# Altium schematic symbol library test.SchLib: 309 symbols (part 8 of 9)
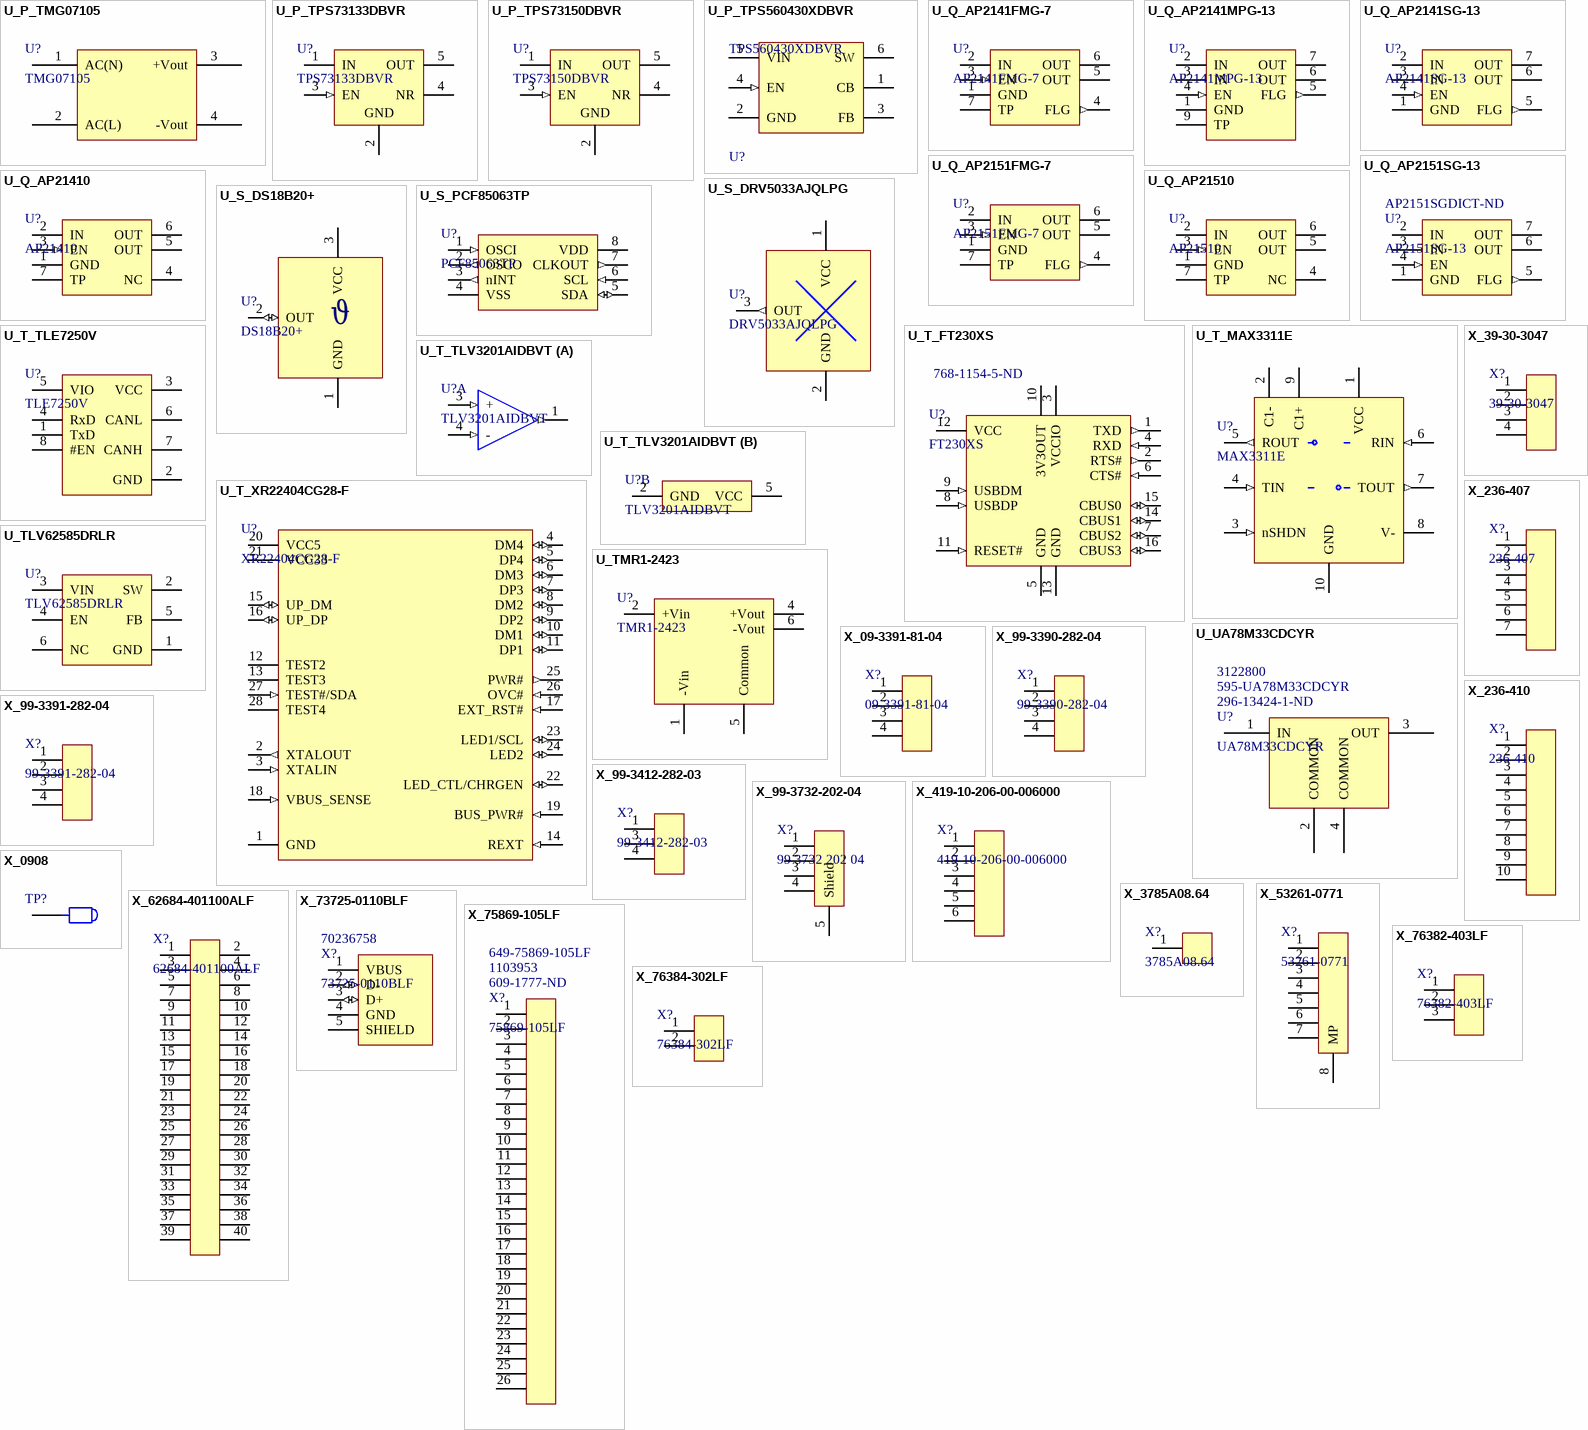
[diagram p15: symbols U_P_TMG07105 to X_76384-302LF]

## X_75869-105LF
designator X?, comment 75869-105LF  Supplier Part Number 1: 609-1777-ND  Supplier Part Number 2: 1103953  Supplier Part Number 3: 649-75869-105LF
Conn;  Rect;  Header;  Shrouded;  26 Pos;  2-Row;  2.54 mm;  Vert;  Gold (30);  Quickie; Manufacturer: Amphenol FCI; Number of Contacts: 26; Connector Type: Male Pin; Gender: Male; Current Rating: 1A; Mating Cycles: 250; Voltage Rating: 500V; Insulation Resistance: 100GR; Pitch: 2.54mm; Hole Diameter: 1mm; Contact Post Length: 3.05mm; Row Spacing: 0.1inch; Manufacturer Part Number: 75869-105LF; RoHS: Yes; Category: Headers and Wire Housings; Stock 1: 2271; Pricing 1: 1=1.89000, 10=1.71400, 100=1.46900, 500=1.22412, 1000=1.04925, 5000=0.93034, 10000=0.90935 (USD); Mount: Through Hole; Contact Plating: Gold,GXT; Housing Material: Thermoplastic; Housing Color: Blue; Contact Material: Bronze; Color: Blue; Min Operating Temperature: -65°C; Max Operating Temperature: 125°C; Number of Rows: 2; Termination: Solder; Orientation: Straight; Package Quantity: 14; Packaging: Rail/Tube; Number of Poles: 26; Number of Positions: 26; Max Voltage Rating (AC): 500V; Length: 40.23mm; Width: 9.55mm; Lead Pitch: 2.54mm; Contact Mating Length: 0.236inch; Depth: 9.55mm; Radiation Hardening: No; Flammability Rating: UL94 V-0; Lead Free: Lead Free; REACH SVHC: No SVHC; ComponentLink1URL: https://datasheet.ciiva.com/5159/75869-67738-5159120.pdf?src-supplier=Mouser; ComponentLink1Description: https://datasheet.ciiva.com/5159/75869-67738-5159120.pdf?src-supplier=Mouser; ComponentLink2URL: https://datasheet.ciiva.com/25618/0900766b80d79252-25618009.pdf?src-supplier=RSComponents; ComponentLink2Description: https://datasheet.ciiva.com/25618/0900766b80d79252-25618009.pdf?src-supplier=RSComponents; ComponentLink3URL: https://datasheet.ciiva.com/9473/75869-9473255.pdf?src-supplier=Avnet; ComponentLink3Description: https://datasheet.ciiva.com/9473/75869-9473255.pdf?src-supplier=Avnet; ComponentLink4URL: https://datasheet.ciiva.com/26929/getdatasheetpartid-65750-26929783.pdf?src-supplier=Verical; ComponentLink4Description: https://datasheet.ciiva.com/26929/getdatasheetpartid-65750-26929783.pdf?src-supplier=Verical; ComponentLink5URL: https://datasheet.ciiva.com/8046/8378-8046505.pdf?src-supplier=Element14; ComponentLink5Description: https://datasheet.ciiva.com/8046/8378-8046505.pdf?src-supplier=Element14; ComponentLink6URL: https://datasheet.ciiva.com/713/75869-713580.pdf?src-supplier=Digi-Key; ComponentLink6Description: https://datasheet.ciiva.com/713/75869-713580.pdf?src-supplier=Digi-Key; ComponentLink7URL: https://datasheet.ciiva.com/17093/70252541-17093612.pdf?src-supplier=Allied+Electronics; ComponentLink7Description: https://datasheet.ciiva.com/17093/70252541-17093612.pdf?src-supplier=Allied+Electronics; Supplier 1: Digi-Key; Supplier 2: Farnell; Supplier 3: Mouser
footprint HEADER26POL
pins: 1, 2, 3, 4, 5, 6, 7, 8, 9, 10, 11, 12, 13, 14, 15, 16, 17, 18, 19, 20, 21, 22, 23, 24, 25, 26

## X_76382-403LF
designator X?, comment 76382-403LF
3 Positions Header, Shrouded Connector 0.100" (2.54mm) Through Hole, Right Angle Tin; Manufacturer: Amphenol FCI; Supplier 1: Digi-Key; Supplier Part Number 1: 609-1292-ND; Manufacturer Part Number: 76382-403LF; ComponentLink1URL: https://datasheet.ciiva.com/13577/76382-105929-13577951.pdf; ComponentLink1Description: https://datasheet.ciiva.com/13577/76382-105929-13577951.pdf; ComponentLink2URL: https://datasheet.ciiva.com/713/76382-713319.pdf; ComponentLink2Description: https://datasheet.ciiva.com/713/76382-713319.pdf
footprint 76382-403LF
pins: 1, 2, 3

## X_76384-302LF
designator X?, comment 76384-302LF
CONN HEADER VERT 2POS 2.54MM; Manufacturer: Amphenol FCI; Connector Type: Male Pin; Number of Positions: 2; Max Voltage Rating (AC): 1kV; Gender: Male; Insulation Resistance: 100GR; Current Rating: 3A; Contact Post Length: 3.4mm; Supplier 1: Digi-Key; Manufacturer Part Number: 76384-302LF; RoHS: Yes; Category: Headers and Wire Housings; Stock 1: 2364; Pricing 1: 1=0.54000, 10=0.51000, 100=0.39070, 500=0.33976, 1000=0.28031, 5000=0.24633, 10000=0.22934 (USD); Mount: Through Hole; Color: Black; Housing Material: Thermoplastic; Contact Material: Bronze,Copper Alloy,Copper,Nickel,Gold; Housing Color: Black; Contact Plating: Gold,GXT; Min Operating Temperature: -40°C; Max Operating Temperature: 125°C; Package Quantity: 500; Packaging: Bulk; Termination: Solder; Number of Contacts: 2; Number of Rows: 1; Orientation: Straight; Voltage Rating: 1kV; Fastening Type: Friction; Length: 4.08mm; Width: 4.7mm; Pitch: 2.54mm; Depth: 5mm; Contact Mating Length: 0.197inch; Radiation Hardening: No; Lead Free: Lead Free; REACH SVHC: No SVHC; ComponentLink1URL: https://datasheet.ciiva.com/711/76384-711138.pdf?src-supplier=Digi-Key; ComponentLink1Description: https://datasheet.ciiva.com/711/76384-711138.pdf?src-supplier=Digi-Key; ComponentLink2URL: https://datasheet.ciiva.com/14640/70236773-14640887.pdf?src-supplier=Allied+Electronics; ComponentLink2Description: https://datasheet.ciiva.com/14640/70236773-14640887.pdf?src-supplier=Allied+Electronics; ComponentLink3URL: https://datasheet.ciiva.com/14155/gd116700-116785-14155545.pdf?src-supplier=Distrelec; ComponentLink3Description: https://datasheet.ciiva.com/14155/gd116700-116785-14155545.pdf?src-supplier=Distrelec; ComponentLink4URL: https://datasheet.ciiva.com/3118/76384-3118555.pdf?src-supplier=Avnet; ComponentLink4Description: https://datasheet.ciiva.com/3118/76384-3118555.pdf?src-supplier=Avnet; ComponentLink5URL: https://datasheet.ciiva.com/16658/76384-16658443.pdf?src-supplier=Avnet+Europe; ComponentLink5Description: https://datasheet.ciiva.com/16658/76384-16658443.pdf?src-supplier=Avnet+Europe; ComponentLink6URL: https://datasheet.ciiva.com/8046/76384-8046511.pdf?src-supplier=Element14; ComponentLink6Description: https://datasheet.ciiva.com/8046/76384-8046511.pdf?src-supplier=Element14; Supplier 2: Mouser; Stock 2: 1102; Pricing 2: 1=0.54000, 10=0.46100, 50=0.46100, 100=0.38600, 1000=0.27700, 10000=0.22500 (USD); Supplier 3: Farnell; Stock 3: 2055; Pricing 3: 10=0.33700, 100=0.27200, 500=0.24400, 1000=0.20200, 2500=0.17700, 5000=0.17300 (GBP); Supplier Part Number 1: 609-1304-ND; Supplier Part Number 2: 649-76384-302LF; Supplier Part Number 3: 2135958
footprint Pin Header 1x2 TH Pitch 2.54mm DUBOX V (PinHeader 1x2 TH Pitch 2.54mm)
pins: 1, 2

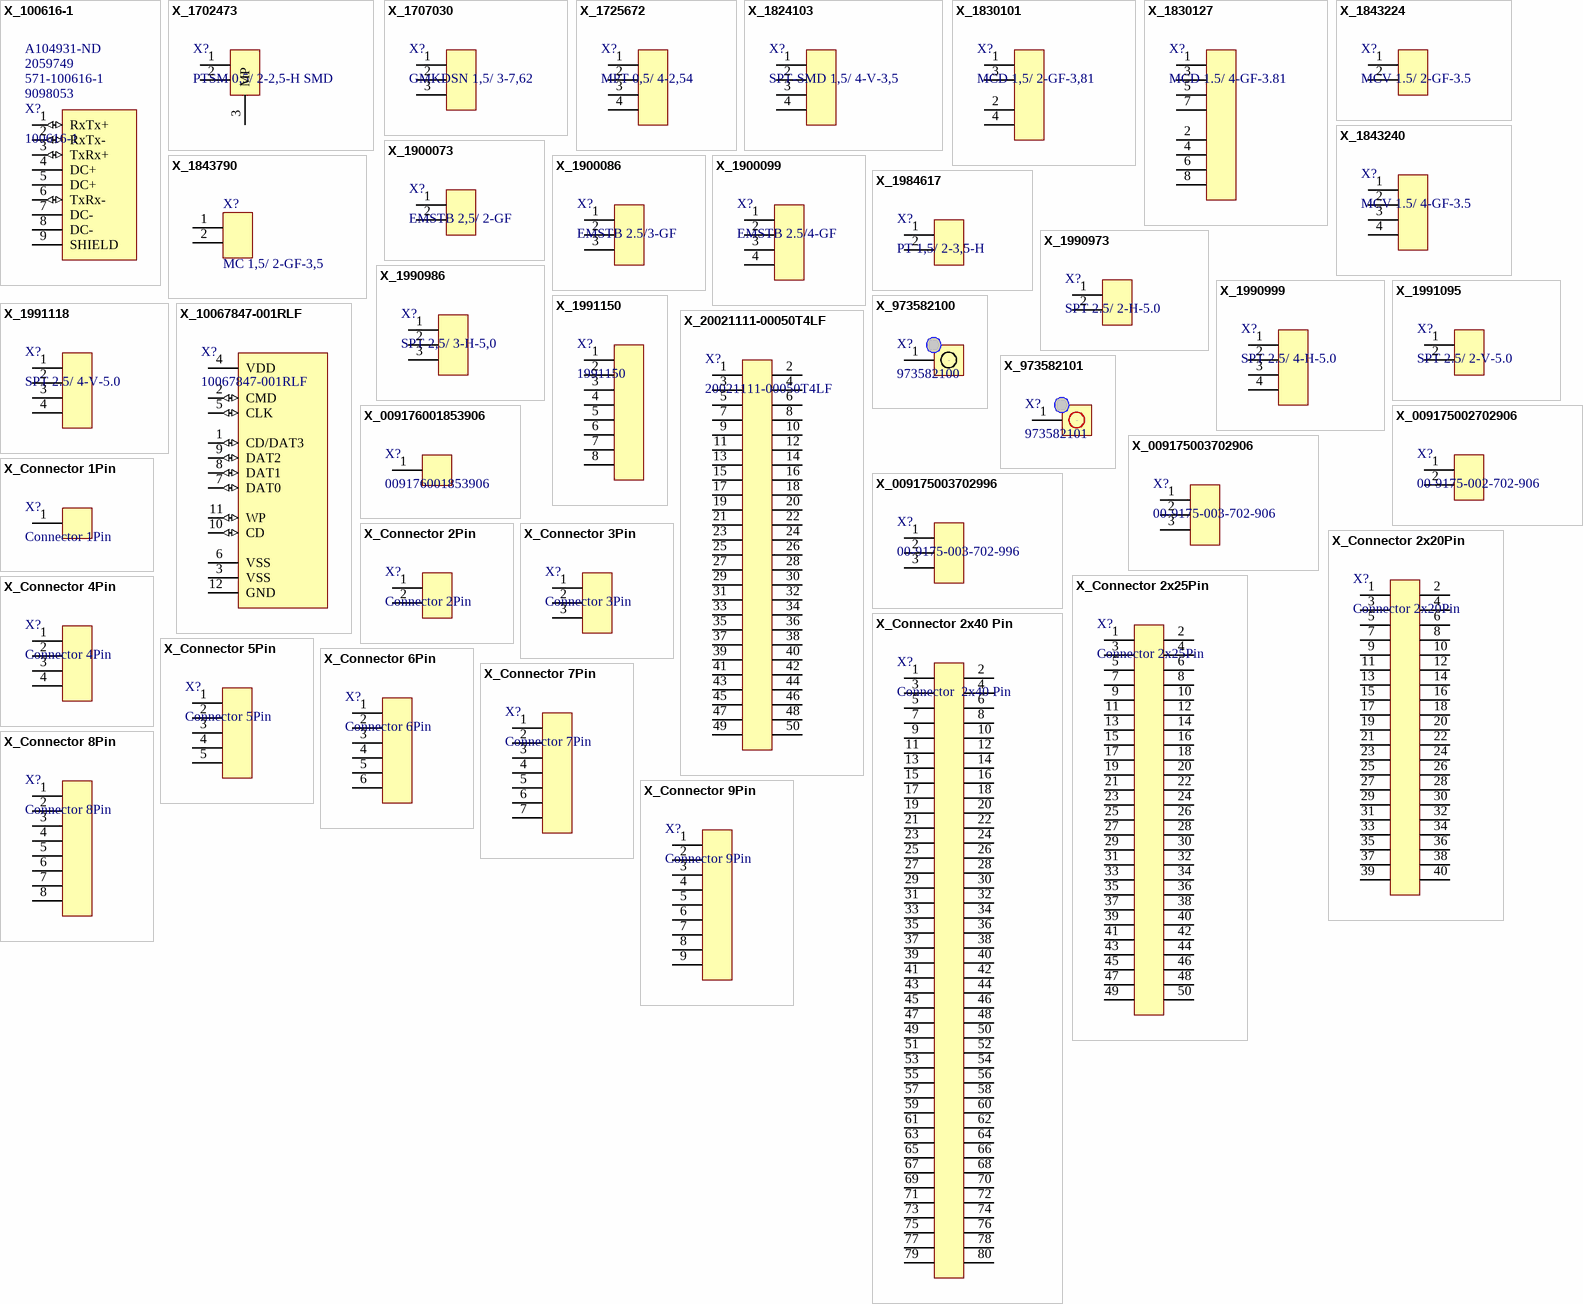
[diagram p7: symbols X_100616-1 to X_Connector 9Pin]

## X_100616-1
designator X?, comment 100616-1  Supplier Part Number 4: 9098053  Supplier Part Number 2: 571-100616-1  Supplier Part Number 3: 2059749  Supplier Part Number 1: A104931-ND
TE CONNECTIVITY / AMP 100616-1 JACK, RJ45, THT; Manufacturer: TE Connectivity; Manufacturer Part Number: 100616-1; ComponentLink1URL: https://datasheet.ciiva.com/23759/1509416-23759356.pdf; ComponentLink1Description: https://datasheet.ciiva.com/23759/1509416-23759356.pdf; ComponentLink2URL: https://datasheet.ciiva.com/16323/eng-cs-82066-mod-jacks-and-mrj21-prod-single-1107-16323398.pdf; ComponentLink2Description: https://datasheet.ciiva.com/16323/eng-cs-82066-mod-jacks-and-mrj21-prod-single-1107-16323398.pdf; ComponentLink3URL: https://datasheet.ciiva.com/16548/eng-cs-82066-mod-jacks-and-mrj21-prod-single-1107-16548141.pdf; ComponentLink3Description: https://datasheet.ciiva.com/16548/eng-cs-82066-mod-jacks-and-mrj21-prod-single-1107-16548141.pdf; ComponentLink4URL: https://datasheet.ciiva.com/6931/eng-cd-100616-p-6931516.pdf; ComponentLink4Description: https://datasheet.ciiva.com/6931/eng-cd-100616-p-6931516.pdf; ComponentLink5URL: https://datasheet.ciiva.com/1107/492544-1107159.pdf; ComponentLink5Description: https://datasheet.ciiva.com/1107/492544-1107159.pdf; ComponentLink6URL: https://datasheet.ciiva.com/3139/eng-cs-82066-mod-jacks-and-mrj21-prod-single-1107-3139307.pdf; ComponentLink6Description: https://datasheet.ciiva.com/3139/eng-cs-82066-mod-jacks-and-mrj21-prod-single-1107-3139307.pdf; Supplier 4: RSComponents; Supplier 2: Mouser; Supplier 3: Farnell; Supplier 1: Digi-Key
footprint 100616-1
pins: 1 RxTx+ (io), 2 RxTx- (io), 3 TxRx+ (io), 4 DC+ (power), 5 DC+ (power), 6 TxRx- (io), 7 DC- (power), 8 DC- (power), 9 SHIELD (power)

## X_1702473
designator X?, comment PTSM 0,5/ 2-2,5-H SMD
PHOENIX CONTACT - PTSM 0,5/ 2-2,5-H-SMD - TERMINAL BLOCK, WIRE TO BRD, 2POS, 20AWG; Manufacturer Part Number: 1702473; Max Supply Voltage: 150V; Current Rating: 6A; Voltage Rating: 160V; Number of Positions: 2; Number of Levels: 1; Current: 5A; Gender: Female; Wire Gauge (Min): 24AWG; Pitch: 2.5mm; Supplier 1: Digi-Key; Manufacturer: Phoenix Contact; RoHS: Yes; Category: Terminal Blocks; Stock 1: 15325; Pricing 1: 1=0.73000, 10=0.67200, 50=0.64400, 100=0.61600, 250=0.59920 (USD); Mount: Surface Mount; Number of Pins: 2; Material: Polymer; Housing Color: Black; Color: Black; Housing Material: Polymer; Contact Material: Tin; Contact Plating: Tin; Packaging: Tape and Reel; Package Quantity: 770; Orientation: Right Angle; Max Current Rating: 6A; Number of Rows: 1; Termination: Solder; Number of Positions Per Level: 2; Voltage: 150V; Number of Contacts: 2; Number of Circuits: 2; Length: 5.5mm; Width: 9mm; Height: 9.4mm; Wire Gauge (Max): 20AWG; Depth: 9.4mm; Wire/Cable Gauge: 24AWG; Radiation Hardening: No; Lead Free: Lead Free; REACH SVHC: Unknown; Flammability Rating: UL94 V-0; ComponentLink1URL: https://datasheet.ciiva.com/16045/1702473-16045904.pdf?src-supplier=Onlinecomponents.com; ComponentLink1Description: https://datasheet.ciiva.com/16045/1702473-16045904.pdf?src-supplier=Onlinecomponents.com; ComponentLink2URL: https://datasheet.ciiva.com/11758/0900766b80ecbf39-11758680.pdf?src-supplier=RSComponents; ComponentLink2Description: https://datasheet.ciiva.com/11758/0900766b80ecbf39-11758680.pdf?src-supplier=RSComponents; ComponentLink3URL: https://datasheet.ciiva.com/26920/getdatasheetpartid-335746-26920490.pdf?src-supplier=Verical; ComponentLink3Description: https://datasheet.ciiva.com/26920/getdatasheetpartid-335746-26920490.pdf?src-supplier=Verical; ComponentLink4URL: https://datasheet.ciiva.com/823/1702473-823756.pdf?src-supplier=Digi-Key; ComponentLink4Description: https://datasheet.ciiva.com/823/1702473-823756.pdf?src-supplier=Digi-Key; ComponentLink5URL: https://datasheet.ciiva.com/823/1702473-823757.pdf?src-supplier=Digi-Key; ComponentLink5Description: https://datasheet.ciiva.com/823/1702473-823757.pdf?src-supplier=Digi-Key; ComponentLink6URL: https://datasheet.ciiva.com/14643/70170429-14643773.pdf?src-supplier=Allied+Electronics; ComponentLink6Description: https://datasheet.ciiva.com/14643/70170429-14643773.pdf?src-supplier=Allied+Electronics; ComponentLink7URL: https://datasheet.ciiva.com/823/1702473-823758.pdf?src-supplier=Digi-Key; ComponentLink7Description: https://datasheet.ciiva.com/823/1702473-823758.pdf?src-supplier=Digi-Key; ComponentLink8URL: https://datasheet.ciiva.com/29217/569106-da-01-en-printklemme-1702473-770-st-29217643.pdf?src-supplier=Conrad; ComponentLink8Description: https://datasheet.ciiva.com/29217/569106-da-01-en-printklemme-1702473-770-st-29217643.pdf?src-supplier=Conrad; Supplier Part Number 1: 277-2337-1-ND
footprint 1702473 (PTSM 0,5/ 2-2,5-H SMD R24)
pins: 1, 2, 3 MP

## X_1707030
designator X?, comment GMKDSN 1,5/ 3-7,62
Conn PC Terminal Block F 3 POS 7.62mm Solder ST Thru-Hole 16A; Manufacturer: Phoenix Contact; Manufacturer Part Number: 1707030; Voltage Rating: 400V; Number of Positions: 3; Number of Levels: 1; Current: 10A; Voltage: 300V; Connector Type: Screw; Wire Gauge (Max): 26AWG; Pitch: 0.3inch; Supplier 1: Digi-Key; Supplier Part Number 1: 277-13735-ND; Stock 1: 135; Pricing 1: 1=2.52000, 10=2.44900, 50=2.28900, 100=2.10590, 250=1.94564, 500=1.85410, 1000=1.73965 (USD); RoHS: Yes; Mount: Through Hole; Number of Pins: 3; Weight: 1.410958oz; Color: Green; Housing Color: Green; Housing Material: Polyamide; Contact Material: Tin; Current Rating: 16A; Package Quantity: 50; Packaging: Bulk; Max Current Rating: 16A; Number of Rows: 1; Max Supply Voltage: 400V; Termination: Solder; Number of Positions Per Level: 3; Orientation: Straight; Length: 22.86mm; Height: 13.5mm; Wire Gauge (Min): 26AWG; Width: 22.86mm; Depth: 8.1mm; Radiation Hardening: No; Flammability Rating: UL94 V-0; ComponentLink1URL: https://datasheet.ciiva.com/832/1707030-832245.pdf?src-supplier=Digi-Key; ComponentLink1Description: https://datasheet.ciiva.com/832/1707030-832245.pdf?src-supplier=Digi-Key; ComponentLink2URL: https://datasheet.ciiva.com/15170/getdatasheetpartid-258508-15170105.pdf?src-supplier=Verical; ComponentLink2Description: https://datasheet.ciiva.com/15170/getdatasheetpartid-258508-15170105.pdf?src-supplier=Verical; ComponentLink3URL: https://datasheet.ciiva.com/29226/773636-da-01-en-printklemme-1707030-50-st-29226026.pdf?src-supplier=Conrad; ComponentLink3Description: https://datasheet.ciiva.com/29226/773636-da-01-en-printklemme-1707030-50-st-29226026.pdf?src-supplier=Conrad
footprint P_GMKDSN 1,5/ 3-7,62_PHOENIX
pins: 1 (power), 2 (power), 3 (power)

## X_1725672
designator X?, comment MPT 0,5/ 4-2,54
TERM BLK 4P SIDE ENT 2.54MM PCB; Manufacturer: Phoenix Contact; Manufacturer Part Number: 1725672; Number of Levels: 1; Number of Positions Per Level: 4; Current: 6A; Voltage: 125V; Connector Type: Screw; Max Supply Voltage: 63V; Wire Gauge (Max): 26AWG; Wire Gauge (Min): 20AWG; Approvals: UL; Supplier 1: Digi-Key; Supplier Part Number 1: 277-1275-ND; Stock 1: 5206; Pricing 1: 1 = 3.30000, 10 = 3.16400, 50 = 3.02620, 100 = 2.94360, 250 = 2.75100, 500 = 2.53092, 1000 = 2.33834, 2500 = 2.22832 (USD); RoHS: Yes; Mount: Through Hole; Number of Pins: 4; Weight: 0.044798oz; Color: Green; Housing Material: Polyamide; Housing Color: Green; Contact Material: Tin; Material: Nylon; Insulation Material: Nylon; Packaging: Bulk; Termination: Solder; Current Rating: 6A; Number of Rows: 1; Number of Positions: 4; Number of Contacts: 4; Orientation: Straight; Max Current Rating: 6A; Number of Poles: 4; Voltage Rating: 125V; Package Quantity: 50; Number of Circuits: 4; Length: 6.2mm; Height: 10.62mm; Pitch: 2.54mm; Wire/Cable Gauge: 26AWG; Depth: 6.2mm; Width: 14mm; Radiation Hardening: No; Lead Free: Lead Free; REACH SVHC: No SVHC; Flammability Rating: UL94 V-0; ComponentLink1URL: https://datasheet.ciiva.com/1120/5117-1120512.pdf?src-supplier=Farnell; ComponentLink1Description: https://datasheet.ciiva.com/1120/5117-1120512.pdf?src-supplier=Farnell; ComponentLink2URL: https://datasheet.ciiva.com/823/1725672-823812.pdf?src-supplier=Digi-Key; ComponentLink2Description: https://datasheet.ciiva.com/823/1725672-823812.pdf?src-supplier=Digi-Key; ComponentLink3URL: https://datasheet.ciiva.com/11757/0900766b80363fc3-11757428.pdf?src-supplier=RSComponents; ComponentLink3Description: https://datasheet.ciiva.com/11757/0900766b80363fc3-11757428.pdf?src-supplier=RSComponents; ComponentLink4URL: https://datasheet.ciiva.com/7053/1697274-7053094.pdf?src-supplier=Newark; ComponentLink4Description: https://datasheet.ciiva.com/7053/1697274-7053094.pdf?src-supplier=Newark; ComponentLink5URL: https://datasheet.ciiva.com/15169/getdatasheetpartid-177917-15169671.pdf?src-supplier=Verical; ComponentLink5Description: https://datasheet.ciiva.com/15169/getdatasheetpartid-177917-15169671.pdf?src-supplier=Verical; ComponentLink6URL: https://datasheet.ciiva.com/16071/1725672-16071850.pdf?src-supplier=Onlinecomponents.com; ComponentLink6Description: https://datasheet.ciiva.com/16071/1725672-16071850.pdf?src-supplier=Onlinecomponents.com; ComponentLink7URL: https://datasheet.ciiva.com/1118/5117-1118545.pdf?src-supplier=Element14; ComponentLink7Description: https://datasheet.ciiva.com/1118/5117-1118545.pdf?src-supplier=Element14
footprint 1725672 (TERM BLK 4P SIDE ENT 2.54MM PCB)
pins: 1, 2, 3, 4

## X_1824103
designator X?, comment SPT-SMD 1,5/ 4-V-3,5
TERM BLK 4P TOP ENTRY 3.5MM SMD; Manufacturer: Phoenix Contact; Manufacturer Part Number: 1824103; Number of Levels: 1; Number of Positions Per Level: 4; Current: 10A; Voltage: 300V; Pitch: 0.138inch; Wire Gauge (Max): 24AWG; Wire Gauge (Min): 16AWG; Supplier 1: Digi-Key; RoHS: Yes; Category: Terminal Blocks; Stock 1: 461; Pricing 1: 1=4.25000, 10=4.07100, 50=3.89400, 100=3.78780 (USD); Mount: Surface Mount; Number of Pins: 4; Color: Black; Housing Material: Polymer; Contact Plating: Tin; Housing Color: Black; Packaging: Tape and Reel; Termination: Screwless; ComponentLink1URL: https://media.digikey.com/pdf/Data%20Sheets/Phoenix%20Contact%20PDFs/1824103.pdf?src-supplier=Digi-Key; ComponentLink1Description: https://media.digikey.com/pdf/Data%20Sheets/Phoenix%20Contact%20PDFs/1824103.pdf?src-supplier=Digi-Key; Supplier Part Number 1: 277-11528-1-ND
footprint 1824103 (SPT-SMD 1,5/ 4-V-3,5 R44)
pins: 1, 2, 3, 4

## X_1830101
designator X?, comment MCD 1,5/ 2-GF-3,81
Manufacturer: Phoenix Contact; Manufacturer Part Number: 1830101; Supplier 1: Digi-Key; Supplier Part Number 1: 277-14134-ND; ComponentLink1URL: http://components.arrow.com/part/dataview/44194232S75533N1555; ComponentLink1Description: http://components.arrow.com/part/dataview/44194232S75533N1555; ComponentLink2URL: //media.digikey.com/pdf/Data%20Sheets/Phoenix%20Contact%20PDFs/1830101.pdf; ComponentLink2Description: //media.digikey.com/pdf/Data%20Sheets/Phoenix%20Contact%20PDFs/1830101.pdf; ComponentLink3URL: http://www.mouser.com/ds/2/324/ItemDetail_1830101-922520.pdf; ComponentLink3Description: http://www.mouser.com/ds/2/324/ItemDetail_1830101-922520.pdf
footprint MCD 1,5/ 2-GF-3,81
pins: 1, 2, 3, 4

## X_1830127
designator X?, comment MCD 1.5/ 4-GF-3.81
Manufacturer: Phoenix Contact; Manufacturer Part Number: 1830127; Supplier 1: Digi-Key; Supplier Part Number 1: 1830127-ND; ComponentLink1URL: http://www.mouser.com/ds/2/324/ItemDetail_1830127-917667.pdf; ComponentLink1Description: http://www.mouser.com/ds/2/324/ItemDetail_1830127-917667.pdf; ComponentLink2URL: http://components.arrow.com/part/dataview/44194238S9084575N1555; ComponentLink2Description: http://components.arrow.com/part/dataview/44194238S9084575N1555
footprint MCD 1,5/ 4-GF-3,81
pins: 1, 2, 3, 4, 5, 6, 7, 8

## X_1843224
designator X?, comment MCV 1.5/ 2-GF-3.5
Pluggable Terminal Blocks MCV 1.5/ 2-GF-3.5; Manufacturer: Phoenix Contact; Manufacturer Part Number: 1843224; Supplier 1: Digi-Key; Supplier Part Number 1: 277-6083-ND
footprint MCV 1,5/ 2-GF-3,5
pins: 1, 2

## X_1843240
designator X?, comment MCV 1.5/ 4-GF-3.5
Manufacturer: Phoenix Contact; Manufacturer Part Number: 1843240; ComponentLink1URL: https://datasheet.ciiva.com/16097/1843240-16097113.pdf; ComponentLink1Description: https://datasheet.ciiva.com/16097/1843240-16097113.pdf; ComponentLink2URL: https://datasheet.ciiva.com/6754/1843240-6754509.pdf; ComponentLink2Description: https://datasheet.ciiva.com/6754/1843240-6754509.pdf; ComponentLink3URL: https://datasheet.ciiva.com/26840/getdatasheetpartid-514980-26840529.pdf; ComponentLink3Description: https://datasheet.ciiva.com/26840/getdatasheetpartid-514980-26840529.pdf; ComponentLink4URL: https://datasheet.ciiva.com/29212/788433-da-01-en-grundgehaeuse-1843240-250-st-29212946.pdf; ComponentLink4Description: https://datasheet.ciiva.com/29212/788433-da-01-en-grundgehaeuse-1843240-250-st-29212946.pdf; Supplier 1: Digi-Key; Supplier 2: Mouser; Supplier 3: Farnell; Supplier Part Number 1: 277-6052-ND; Supplier Part Number 2: 651-1843240; Supplier Part Number 3: 2776353
footprint MCV 1,5/ 4-GF-3,5 (EMC 1,5/ 4-GF-3,5)
pins: 1, 2, 3, 4

## X_1843790
designator X?, comment MC 1,5/ 2-GF-3,5
MC 1,5/ 2-GF-3,5 / Pluggable Terminal Blocks 2 Pos 3.5mm pitch Through Hole Header; Manufacturer: Phoenix Contact; Manufacturer Part Number: 1843790; Number of Contacts: 2; Current Rating: 8A; Voltage Rating: 160V; Number of Levels: 1; Voltage: 300V; Connector Type: Plug; Supplier 1: Digi-Key; RoHS: Yes; Category: Terminal Blocks; Stock 1: 7315; Pricing 1: 1=2.76000, 10=2.64500, 50=2.53000, 100=2.46100, 250=2.30000, 500=2.11600, 1000=1.95499, 2500=1.86300, 5000=1.74800 (USD); Mount: Through Hole; Contact Plating: Tin; Contact Material: Tin; Color: Green; Housing Material: Polybutylene; Housing Color: Green; Weight: 4oz; Termination: Solder; Packaging: Bulk; Number of Rows: 1; Package Quantity: 50; Current: 8A; Orientation: Right Angle; Number of Positions Per Level: 2; Number of Positions: 2; Max Current Rating: 8A; Length: 17.3mm; Width: 17.3mm; Height: 10.65mm; Pitch: 3.5mm; Depth: 9.2mm; Lead Free: Lead Free; Flammability Rating: UL94 V-0; ComponentLink1URL: https://datasheet.ciiva.com/16097/1843790-16097145.pdf?src-supplier=Onlinecomponents.com; ComponentLink1Description: https://datasheet.ciiva.com/16097/1843790-16097145.pdf?src-supplier=Onlinecomponents.com; ComponentLink2URL: https://datasheet.ciiva.com/26339/788934-da-01-en-grundgehaeuse-1843790-250-st-26339482.pdf?src-supplier=Conrad; ComponentLink2Description: https://datasheet.ciiva.com/26339/788934-da-01-en-grundgehaeuse-1843790-250-st-26339482.pdf?src-supplier=Conrad; Supplier Part Number 1: 277-5882-ND
footprint MC 1,5/ 2-GF-3,5
pins: 1, 2

## X_1900073
designator X?, comment EMSTB 2,5/ 2-GF
Pluggable Terminal Blocks EMSTB 2.5/2-GF; Manufacturer: Phoenix Contact; Manufacturer Part Number: 1900073; Supplier 1: Digi-Key; Supplier Part Number 1: 277-14326-ND; ComponentLink1URL: https://datasheet.ciiva.com/16097/1900073-16097371.pdf; ComponentLink1Description: https://datasheet.ciiva.com/16097/1900073-16097371.pdf
footprint EMSTB 2,5/ 2-GF
pins: 1, 2

## X_1900086
designator X?, comment EMSTB 2.5/3-GF
Pluggable Terminal Blocks EMSTB 2.5/3-GF; Manufacturer: Phoenix Contact; Manufacturer Part Number: 1900086; Supplier 1: Digi-Key; Supplier Part Number 1: 1900086-ND; ComponentLink1URL: http://components.arrow.com/part/dataview/44220487S75226N1555; ComponentLink1Description: http://components.arrow.com/part/dataview/44220487S75226N1555; ComponentLink2URL: http://www.mouser.com/ds/2/324/ItemDetail_1900086-930201.pdf; ComponentLink2Description: http://www.mouser.com/ds/2/324/ItemDetail_1900086-930201.pdf; ComponentLink3URL: //media.digikey.com/pdf/Data%20Sheets/Phoenix%20Contact%20PDFs/1900086.pdf; ComponentLink3Description: //media.digikey.com/pdf/Data%20Sheets/Phoenix%20Contact%20PDFs/1900086.pdf
footprint EMSTB 2,5/ 3-GF
pins: 1, 2, 3

## X_1900099
designator X?, comment EMSTB 2.5/4-GF
Pluggable Terminal Blocks EMSTB 2.5/4-GF; Manufacturer: Phoenix Contact; Manufacturer Part Number: 1900099; Supplier 1: Digi-Key; Supplier Part Number 1: 1900099-ND; ComponentLink1URL: https://datasheet.ciiva.com/816/1900099-816890.pdf; ComponentLink1Description: https://datasheet.ciiva.com/816/1900099-816890.pdf
footprint EMSTB 2.5/4-GF
pins: 1, 2, 3, 4

## X_1984617
designator X?, comment PT 1,5/ 2-3,5-H
Conn;  Term Blk;  PCB;  2;  3.5 mm;  Front;  26-16 AWG;  10 A;  300 V;  1.2 mm PA; Manufacturer: Phoenix Contact; Manufacturer Part Number: 1984617; Current Rating: 17.5A; Voltage Rating: 160V; Number of Positions: 2; Max Current Rating: 10A; Number of Levels: 1; Voltage: 300V; Wire Gauge (Max): 26AWG; Wire Gauge (Min): 16AWG; Pitch: 3.5mm; Stripping Length: 5mm; Approvals: UL,EAC; Supplier 1: Digi-Key; RoHS: Yes; Category: Terminal Blocks; Stock 1: 3834; Pricing 1: 1=0.48000, 10=0.46000, 50=0.44000, 100=0.42800, 250=0.40000, 500=0.36800, 1000=0.34000 (USD); Mount: Through Hole; Number of Pins: 2; Contact Material: Tin; Color: Green; Weight: 0.032487oz; Material: Nylon; Housing Color: Green; Housing Material: Polyamide; Packaging: Bulk; Termination: Solder; Number of Contacts: 2; Series: COMBICON PT; Number of Rows: 1; Max Supply Voltage: 160V; Package Quantity: 250; Number of Poles: 2; Number of Positions Per Level: 2; Current: 10A; Number of Circuits: 2; Orientation: Straight; Number of Ways: 2; Length: 7mm; Width: 13.7mm; Height: 9mm; Depth: 7.6mm; Wire/Cable Gauge: 16AWG; Radiation Hardening: No; Lead Free: Lead Free; RoHS Compliant: Yes; Flammability Rating: UL94 V-0; ComponentLink1URL: https://datasheet.ciiva.com/3969/1984617-3969923.pdf?src-supplier=Arrow+Electronics; ComponentLink1Description: https://datasheet.ciiva.com/3969/1984617-3969923.pdf?src-supplier=Arrow+Electronics; ComponentLink2URL: https://datasheet.ciiva.com/11758/0900766b811d7588-11758486.pdf?src-supplier=RSComponents; ComponentLink2Description: https://datasheet.ciiva.com/11758/0900766b811d7588-11758486.pdf?src-supplier=RSComponents; ComponentLink3URL: https://datasheet.ciiva.com/15169/getdatasheetpartid-212214-15169950.pdf?src-supplier=Verical; ComponentLink3Description: https://datasheet.ciiva.com/15169/getdatasheetpartid-212214-15169950.pdf?src-supplier=Verical; ComponentLink4URL: https://datasheet.ciiva.com/16070/1984617-16070639.pdf?src-supplier=Onlinecomponents.com; ComponentLink4Description: https://datasheet.ciiva.com/16070/1984617-16070639.pdf?src-supplier=Onlinecomponents.com; ComponentLink5URL: https://datasheet.ciiva.com/823/combiconcompactseries-823754.pdf?src-supplier=Digi-Key; ComponentLink5Description: https://datasheet.ciiva.com/823/combiconcompactseries-823754.pdf?src-supplier=Digi-Key; Supplier 2: Mouser; Stock 2: 38853; Pricing 2: 1=0.48000, 10=0.45900, 50=0.43900, 100=0.42700, 1000=0.33900, 10000=0.33900 (USD); Supplier 3: Farnell; Stock 3: 6427; Pricing 3: 10=1.03000, 100=0.30900, 250=0.29900, 500=0.28800, 1000=0.28200, 2500=0.27600 (GBP); Supplier Part Number 1: 277-1721-ND; Supplier Part Number 2: 651-1984617; Supplier Part Number 3: 2776442
footprint PT 1,5/ 2-3,5-H - 1984617
pins: 1, 2

## X_1990973
designator X?, comment SPT 2.5/ 2-H-5.0
Fixed Terminal Blocks SPT 2.5/ 2-H-5.0 5MM 2P HORZ SPR; Manufacturer: Phoenix Contact; Manufacturer Part Number: 1990973; Supplier 1: Digi-Key; Supplier Part Number 1: 277-7665-ND; ComponentLink1URL: https://datasheet.ciiva.com/24441/1990973-24441484.pdf; ComponentLink1Description: https://datasheet.ciiva.com/24441/1990973-24441484.pdf; ComponentLink2URL: https://datasheet.ciiva.com/11758/0900766b80ff57cd-11758662.pdf; ComponentLink2Description: https://datasheet.ciiva.com/11758/0900766b80ff57cd-11758662.pdf
footprint SPT 2,5/2-H-5,0
pins: 1, 2

## X_1990986
designator X?, comment SPT 2,5/ 3-H-5,0
SPT 2,5/ 3-H-5,0 Conn PC Terminal Block 3 POS 5mm Solder RA Thru-Hole 24A; Manufacturer: Phoenix Contact; Manufacturer Part Number: 1990986; Number of Poles: 3; Voltage Rating: 400V; Number of Levels: 1; Current: 20A; Voltage: 300V; Wire Gauge (Max): 24AWG; Approvals: UL,CB,EAC; Supplier 1: Digi-Key; RoHS: Yes; Category: Terminal Blocks; Stock 1: 189; Pricing 1: 1=1.79000, 10=1.71600, 50=1.66920, 100=1.56000, 250=1.43520, 500=1.32600, 1000=1.26360, 2500=1.18560 (USD); Mount: Through Hole; Housing Material: Nylon; Color: Green; Weight: 0.142648oz; Housing Color: Green; Max Current Rating: 24A; Termination: Screwless; Orientation: Right Angle; Number of Rows: 1; Current Rating: 24A; Package Quantity: 100; Packaging: Bulk; Number of Positions: 3; Number of Positions Per Level: 3; Number of Contacts: 3; Number of Circuits: 3; Series: COMBICON SPT; Length: 16.4mm; Width: 13.5mm; Wire Gauge (Min): 24AWG; Depth: 14.4mm; Pitch: 5mm; Lead Free: Lead Free; RoHS Compliant: Yes; ComponentLink1URL: https://datasheet.ciiva.com/24386/1990986-24386788.pdf?src-supplier=Onlinecomponents.com; ComponentLink1Description: https://datasheet.ciiva.com/24386/1990986-24386788.pdf?src-supplier=Onlinecomponents.com; ComponentLink2URL: https://datasheet.ciiva.com/18620/1990986-18620855.pdf?src-supplier=Digi-Key; ComponentLink2Description: https://datasheet.ciiva.com/18620/1990986-18620855.pdf?src-supplier=Digi-Key; ComponentLink3URL: https://datasheet.ciiva.com/29312/788669-da-01-de-printklemme-1990986-100-st-29312420.pdf?src-supplier=Conrad; ComponentLink3Description: https://datasheet.ciiva.com/29312/788669-da-01-de-printklemme-1990986-100-st-29312420.pdf?src-supplier=Conrad; ComponentLink4URL: https://datasheet.ciiva.com/14610/70055227-14610907.pdf?src-supplier=Allied+Electronics; ComponentLink4Description: https://datasheet.ciiva.com/14610/70055227-14610907.pdf?src-supplier=Allied+Electronics; Supplier 2: Mouser; Stock 2: 580; Pricing 2: 1=1.80000, 10=1.72000, 50=1.67000, 100=1.56000, 1000=1.27000, 10000=1.19000 (USD); Supplier 3: Farnell; Supplier Part Number 1: 277-9790-ND; Supplier Part Number 2: 651-1990986; Supplier Part Number 3: 2928709
footprint SPT 2,5/3-H-5,0
pins: 1, 2, 3

## X_1990999
designator X?, comment SPT 2.5/ 4-H-5.0
Fixed Terminal Blocks SPT 2.5/ 4-H-5.0 5MM 4P HORZ SPR; Manufacturer: Phoenix Contact; Manufacturer Part Number: 1990999; Supplier 1: Digi-Key; Supplier Part Number 1: 277-9154-ND; ComponentLink1URL: https://datasheet.ciiva.com/11758/0900766b80ff57cf-11758637.pdf; ComponentLink1Description: https://datasheet.ciiva.com/11758/0900766b80ff57cf-11758637.pdf
footprint SPT 2,5/4-H-5,0
pins: 1, 2, 3, 4

## X_1991095
designator X?, comment SPT 2.5/ 2-V-5.0
Fixed Terminal Blocks SPT 2.5/ 2-V-5.0 5MM 2P VERT SPR; Manufacturer: Phoenix Contact; Manufacturer Part Number: 1991095; Supplier 1: Digi-Key; Supplier Part Number 1: 277-6267-ND; ComponentLink1URL: https://datasheet.ciiva.com/16051/1991095-16051374.pdf; ComponentLink1Description: https://datasheet.ciiva.com/16051/1991095-16051374.pdf; ComponentLink2URL: https://datasheet.ciiva.com/6752/1991095-6752880.pdf; ComponentLink2Description: https://datasheet.ciiva.com/6752/1991095-6752880.pdf; ComponentLink3URL: https://datasheet.ciiva.com/29222/774864-da-01-en-printklemme-1991095-100-st-29222380.pdf; ComponentLink3Description: https://datasheet.ciiva.com/29222/774864-da-01-en-printklemme-1991095-100-st-29222380.pdf
footprint SPT 2,5/2-V-5,0
pins: 1, 2

## X_1991118
designator X?, comment SPT 2.5/ 4-V-5.0
Fixed Terminal Blocks SPT 2.5/ 4-V-5.0 5MM 4P VERT SPR; Manufacturer: Phoenix Contact; Manufacturer Part Number: 1991118; Supplier 1: Digi-Key; Supplier Part Number 1: 277-6407-ND; ComponentLink1URL: https://datasheet.ciiva.com/11758/0900766b80ffd31d-11758652.pdf; ComponentLink1Description: https://datasheet.ciiva.com/11758/0900766b80ffd31d-11758652.pdf; ComponentLink2URL: https://datasheet.ciiva.com/6752/1991118-6752792.pdf; ComponentLink2Description: https://datasheet.ciiva.com/6752/1991118-6752792.pdf; ComponentLink3URL: https://datasheet.ciiva.com/14609/70055231-14609885.pdf; ComponentLink3Description: https://datasheet.ciiva.com/14609/70055231-14609885.pdf
footprint SPT 2,5/4-V-5,0
pins: 1, 2, 3, 4

## X_1991150
designator X?, comment 1991150
SPT 2,5/ 8-V-5,0; Manufacturer: Phoenix Contact; Voltage Rating: 400V; Number of Positions: 8; Current Rating: 24A; Number of Levels: 1; Current: 20A; Voltage: 300V; Wire Gauge (Max): 24AWG; Wire Gauge (Min): 12AWG; Pitch: 5mm; Stripping Length: 10mm; Approvals: UL,CB,EAC; Supplier 1: Digi-Key; Manufacturer Part Number: 1991150; RoHS: Yes; Category: Terminal Blocks; Pricing 1: 1=4.65000, 10=4.52600, 50=4.23000, 100=3.89160, 250=3.59552, 500=3.42632, 1000=3.21480 (USD); Mount: Through Hole; Color: Green; Weight: 0.376726oz; Housing Color: Green; Housing Material: Nylon; Packaging: Bulk; Termination: Screwless; Package Quantity: 1; Number of Contacts: 8; Series: COMBICON SPT; Number of Rows: 1; Max Current Rating: 24A; Number of Positions Per Level: 8; Orientation: Straight; Number of Poles: 8; Number of Circuits: 8; Length: 41.4mm; Width: 14.4mm; Depth: 13.5mm; RoHS Compliant: Yes; Lead Free: Lead Free; ComponentLink1URL: https://datasheet.ciiva.com/11758/0900766b80ffd320-11758630.pdf?src-supplier=RSComponents; ComponentLink1Description: https://datasheet.ciiva.com/11758/0900766b80ffd320-11758630.pdf?src-supplier=RSComponents; ComponentLink2URL: https://datasheet.ciiva.com/832/1991150-832407.pdf?src-supplier=Digi-Key; ComponentLink2Description: https://datasheet.ciiva.com/832/1991150-832407.pdf?src-supplier=Digi-Key; ComponentLink3URL: https://datasheet.ciiva.com/16051/1991150-16051386.pdf?src-supplier=Onlinecomponents.com; ComponentLink3Description: https://datasheet.ciiva.com/16051/1991150-16051386.pdf?src-supplier=Onlinecomponents.com; ComponentLink4URL: https://datasheet.ciiva.com/29312/788935-da-01-de-printklemme-1991150-50-st-29312443.pdf?src-supplier=Conrad; ComponentLink4Description: https://datasheet.ciiva.com/29312/788935-da-01-de-printklemme-1991150-50-st-29312443.pdf?src-supplier=Conrad; Supplier 2: Mouser; Pricing 2: 1=4.66000, 10=4.53000, 50=4.23000, 100=3.90000, 1000=3.22000, 10000=3.05000 (USD); Supplier 3: Farnell; Pricing 3: 50=2.92000 (GBP); Supplier Part Number 1: 277-9156-ND; Supplier Part Number 2: 651-1991150; Supplier Part Number 3: 2928722
footprint SPT 2,5/ 8-V-5,0
pins: 1, 2, 3, 4, 5, 6, 7, 8

## X_10067847-001RLF
designator X?, comment 10067847-001RLF
CONN SD CARD PUSH-PUSH SMD; Manufacturer: Amphenol FCI; Supplier 1: Digi-Key; Supplier Part Number 1: 609-3956-1-ND; Manufacturer Part Number: 10067847-001RLF; ComponentLink1URL: https://datasheet.ciiva.com/4581/gs-12-497-4581078.pdf; ComponentLink1Description: https://datasheet.ciiva.com/4581/gs-12-497-4581078.pdf; ComponentLink2URL: https://datasheet.ciiva.com/1106/10067847-1106690.pdf; ComponentLink2Description: https://datasheet.ciiva.com/1106/10067847-1106690.pdf; ComponentLink3URL: https://datasheet.ciiva.com/16547/10067847-16547175.pdf; ComponentLink3Description: https://datasheet.ciiva.com/16547/10067847-16547175.pdf; ComponentLink4URL: https://datasheet.ciiva.com/16469/10067847-16469065.pdf; ComponentLink4Description: https://datasheet.ciiva.com/16469/10067847-16469065.pdf; ComponentLink5URL: https://datasheet.ciiva.com/14617/70248486-14617899.pdf; ComponentLink5Description: https://datasheet.ciiva.com/14617/70248486-14617899.pdf; ComponentLink6URL: https://datasheet.ciiva.com/1107/10067847-1107127.pdf; ComponentLink6Description: https://datasheet.ciiva.com/1107/10067847-1107127.pdf; ComponentLink7URL: https://datasheet.ciiva.com/683/10067847-683412.pdf; ComponentLink7Description: https://datasheet.ciiva.com/683/10067847-683412.pdf; ComponentLink8URL: https://datasheet.ciiva.com/683/10067847-683413.pdf; ComponentLink8Description: https://datasheet.ciiva.com/683/10067847-683413.pdf; ComponentLink9URL: https://datasheet.ciiva.com/683/10067847-683411.pdf; ComponentLink9Description: https://datasheet.ciiva.com/683/10067847-683411.pdf; Supplier 2: Mouser; RoHS: No; Stock 2: 2910; Pricing 2: 1=1.41000, 10=1.15000, 50=1.15000, 100=1.10000, 1000=0.79700, 10000=0.77400 (USD); Supplier 3: Farnell; Stock 3: 3745; Pricing 3: 1=2.24000, 10=2.04000, 100=1.84000, 250=1.64000, 500=1.44000, 1000=1.24000 (GBP); Supplier Part Number 2: 649-10067847-001RLF; Supplier Part Number 3: 2135990
footprint 10067847 (Footprint not found)
pins: 1 CD/DAT3 (io), 2 CMD (io), 3 VSS (power), 4 VDD (power), 5 CLK (io), 6 VSS (power), 7 DAT0 (io), 8 DAT1 (io), 9 DAT2 (io), 10 CD (io), 11 WP (io), 12 GND (power)

## X_20021111-00050T4LF
designator X?, comment 20021111-00050T4LF
50 Positions Header, Unshrouded Connector 0.050" (1.27mm) Through Hole Gold; Manufacturer: Amphenol FCI; Contact Resistance: 30mR; Current Rating: 50A; Voltage Rating: 125V; Number of Positions: 50; Gender: Male; Connector Type: Male Pin; Row Spacing: 0.05inch; Mating Post Length: 3.05mm; Supplier 1: Digi-Key; Supplier Part Number 1: 609-3725-ND; Manufacturer Part Number: 20021111-00050T4LF; Stock 1: 810; Pricing 1: 1=2.63, 10=2.527, 100=2.1058, 500=1.78994, 1000=1.52671, 5000=1.36877 (USD); Mount: Through Hole; Contact Plating: Gold; Contact Material: Nickel,Copper Alloy; Colour: Black; Housing Colour: Black; Housing Material: Plastic; Min Operating Temperature: -40°C; Max Operating Temperature: 85°C; Number of Rows: 2; Packaging: Rail/Tube; Package Quantity: 18; Termination: Solder; Max Voltage Rating (AC): 125V; Number of Contacts: 50; Orientation: Straight; Length: 31.75mm; Pitch: 1.27mm; Contact Mating Length: 0.12inch; Termination Post Length: 2.3mm; Depth: 3.4mm; ComponentLink1URL: https://datasheet.ciiva.com/409/20021111-409178.pdf; ComponentLink1Description: https://datasheet.ciiva.com/409/20021111-409178.pdf; ComponentLink2URL: https://datasheet.ciiva.com/10033/20021111-10033770.pdf; ComponentLink2Description: https://datasheet.ciiva.com/10033/20021111-10033770.pdf; ComponentLink3URL: https://datasheet.ciiva.com/13857/20021111-13857309.pdf; ComponentLink3Description: https://datasheet.ciiva.com/13857/20021111-13857309.pdf
footprint 20021111-00050T4LF (CONN HEADER 50POS UNSHD VERT T/H)
pins: 1, 2, 3, 4, 5, 6, 7, 8, 9, 10, 11, 12, 13, 14, 15, 16, 17, 18, 19, 20, 21, 22, 23, 24, 25, 26, 27, 28, 29, 30, 31, 32, 33, 34, 35, 36, 37, 38, 39, 40, 41, 42, 43, 44, 45, 46, 47, 48, 49, 50

## X_973582100
designator X?, comment 973582100
Hirschmann Test & Measurement, Black 4mm Socket, Tin Plated, 60V dc, 16A; Manufacturer: SKS Hirschmann; Gender: Female; Contact Resistance: 5mR; Hole Diameter: 1.2mm; Supplier 1: Distrelec; Supplier Part Number 1: 140-53-104; Manufacturer Part Number: 973582100; Stock 1: 1944; Pricing 1: 1=9.55000, 10=8.70000, 25=8.53000, 50=8.35000, 100=8.18000 (CHF); RoHS: Yes; Mount: PCB; Color: Black; Contact Material: Brass; Contact Plating: Tin; Insulation Material: PC; Min Operating Temperature: -25°C; Max Operating Temperature: 100°C; Termination: Solder; Voltage Rating: 60V; Current Rating: 16A; Connector Type: Socket; Voltage Rating (DC): 60V; Length: 21mm; Width: 7.5mm; REACH SVHC: No SVHC; Flammability Rating: UL94 V-1; ComponentLink1URL: https://www.alliedelec.com/m/d/d6a8c46d72d0f9ead5bb1c9040b2ee64.pdf?src-supplier=Allied+Electronics; ComponentLink1Description: https://www.alliedelec.com/m/d/d6a8c46d72d0f9ead5bb1c9040b2ee64.pdf?src-supplier=Allied+Electronics; ComponentLink2URL: http://www.farnell.com/datasheets/1844799.pdf?src-supplier=Farnell; ComponentLink2Description: http://www.farnell.com/datasheets/1844799.pdf?src-supplier=Farnell; Supplier 2: RSComponents; Supplier Part Number 2: 738531; Stock 2: 3275; ComponentLink3URL: https://produktinfo.conrad.com/datenblaetter/725000-749999/735206-da-01-de-PB_4_SW_PRUEFBUCHSE.pdf?src-supplier=Conrad; ComponentLink3Description: https://produktinfo.conrad.com/datenblaetter/725000-749999/735206-da-01-de-PB_4_SW_PRUEFBUCHSE.pdf?src-supplier=Conrad
footprint PB 4
pins: 1

## X_973582101
designator X?, comment 973582101
Hirschmann Test & Measurement, Red 4mm Socket, Tin Plated, 60V dc, 16A; Manufacturer: SKS Hirschmann; Gender: Female; Contact Resistance: 5mR; Hole Diameter: 1.2mm; Supplier 1: Distelec; Supplier Part Number 1: 140-53-120; Manufacturer Part Number: 973582101; Stock 1: 1110; Pricing 1: 1=9.55000, 10=8.60000, 50=8.43000, 100=8.26000 (CHF); RoHS: Yes; Mount: PCB; Insulation Material: PC; Color: Red; Contact Material: Brass; Contact Plating: Tin; Min Operating Temperature: -25°C; Max Operating Temperature: 85°C; Voltage Rating: 60V; Current Rating: 16A; Termination: Solder; Connector Type: Socket; Voltage Rating (DC): 60V; Length: 21mm; Width: 7.5mm; REACH SVHC: No SVHC; Flammability Rating: UL94 V-1; ComponentLink1URL: https://www.alliedelec.com/m/d/d6a8c46d72d0f9ead5bb1c9040b2ee64.pdf?src-supplier=Allied+Electronics; ComponentLink1Description: https://www.alliedelec.com/m/d/d6a8c46d72d0f9ead5bb1c9040b2ee64.pdf?src-supplier=Allied+Electronics; ComponentLink2URL: http://www.farnell.com/datasheets/1844800.pdf?src-supplier=Farnell; ComponentLink2Description: http://www.farnell.com/datasheets/1844800.pdf?src-supplier=Farnell; ComponentLink3URL: http://www.farnell.com/datasheets/1782593.pdf?src-supplier=Element14; ComponentLink3Description: http://www.farnell.com/datasheets/1782593.pdf?src-supplier=Element14; ComponentLink4URL: http://www.farnell.com/datasheets/1844800.pdf?src-supplier=Newark; ComponentLink4Description: http://www.farnell.com/datasheets/1844800.pdf?src-supplier=Newark; Supplier 2: RSComponents; Supplier Part Number 2: 738547; Stock 2: 4328; ComponentLink5URL: https://datasheet.ciiva.com/29245/735219-da-01-de-pb-4-rt-pruefbuchse-29245834.pdf?src-supplier=Conrad; ComponentLink5Description: https://datasheet.ciiva.com/29245/735219-da-01-de-pb-4-rt-pruefbuchse-29245834.pdf?src-supplier=Conrad
footprint PB 4 - red
pins: 1

## X_009175002702906
designator X?, comment 00-9175-002-702-906
Conn IDC Connector RCP 2 POS 2.5mm Solder ST SMD T/R; Manufacturer: Kyocera AVX; Manufacturer Part Number: 009175002702906; Supplier 1: Digi-Key; Supplier Part Number 1: 009175002702906-ND; ComponentLink1URL: http://www.avx.com/docs/Catalogs/Capped%20IDC%209175-700.pdf; ComponentLink1Description: http://www.avx.com/docs/Catalogs/Capped%20IDC%209175-700.pdf; ComponentLink2URL: http://datasheets.avx.com/CappedIDC_9175-700.pdf; ComponentLink2Description: http://datasheets.avx.com/CappedIDC_9175-700.pdf
footprint 00-9175-002-702-906
pins: 1, 2

## X_009175003702906
designator X?, comment 00-9175-003-702-906
Conn IDC Connector RCP 3 POS 2.5mm Solder ST SMD T/R; Manufacturer: Kyocera AVX; Manufacturer Part Number: 009175003702906; Supplier 1: Digi-Key; Supplier Part Number 1: 009175003702906-ND; ComponentLink1URL: http://datasheets.avx.com/CappedIDC_9175-700.pdf; ComponentLink1Description: http://datasheets.avx.com/CappedIDC_9175-700.pdf; ComponentLink2URL: http://www.avx.com/docs/Catalogs/Capped%20IDC%209175-700.pdf; ComponentLink2Description: http://www.avx.com/docs/Catalogs/Capped%20IDC%209175-700.pdf
footprint 00-9175-003-702-906
pins: 1, 2, 3

## X_009175003702996
designator X?, comment 00-9175-003-702-996
3 Position Individual Wires Connector White IDC 26 AWG Surface Mount, Right Angle; Manufacturer: Kyocera AVX; Manufacturer Part Number: 009175003702996; Supplier 1: Digi-Key; Supplier Part Number 1: 478-9530-1-ND; ComponentLink1URL: http://datasheets.avx.com/CappedIDC_9175-700.pdf; ComponentLink1Description: http://datasheets.avx.com/CappedIDC_9175-700.pdf
footprint 00-9175-003-702-996
pins: 1, 2, 3

## X_009176001853906
designator X?, comment 009176001853906
Conn IDC Connector F 1 POS 4mm Solder ST SMD T/R; Manufacturer: Kyocera AVX; Number of Positions: 1; Wire/Cable Gauge: 22AWG; Supplier 1: Digi-Key; Manufacturer Part Number: 009176001853906; RoHS: No; Stock 1: 5280; Pricing 1: 1=0.52000, 10=0.48500, 25=0.43640, 50=0.38800, 100=0.37190, 250=0.33956, 500=0.32340 (USD); Mount: Surface Mount; Contact Plating: Tin; Color: White; Connector Type: IDC; Packaging: Cut Tape; Number of Rows: 1; ComponentLink1URL: https://media.digikey.com/pdf/Data%20Sheets/AVX%20PDFs/9176-800_Series.pdf?src-supplier=Digi-Key; ComponentLink1Description: https://media.digikey.com/pdf/Data%20Sheets/AVX%20PDFs/9176-800_Series.pdf?src-supplier=Digi-Key; Supplier Part Number 1: 478-009176001853906CT-ND
footprint 00-9175-002-702-906
pins: 1

## X_Connector 1Pin
designator X?, comment Connector 1Pin
Generic connector 1 Pin
footprint Pin Header 1x1 TH Pitch 2.54mm (PinHeader 1x1 TH Pitch 2.54mm)
footprint Pin Header 1x1 TH Pitch 2.54mm TP (PinHeader 1x1 TH Pitch 2.54mm)
footprint castellated hole
footprint Solderpads_1.4x2.5
footprint 3785A08.64
footprint Solderpads_3x7 (Solderpads 2x7 mm)
pins: 1

## X_Connector 2Pin
designator X?, comment Connector 2Pin
Generic connector 2 Pin
footprint Pin Header 1x2 TH Pitch 2.54mm (PinHeader 1x2 TH Pitch 2.54mm)
footprint Solderpads2x2.54
footprint Pin Header 1x2 TH Pitch 2.54mm f (PinHeader 1x2 TH Pitch 2.54mm female)
pins: 1, 2

## X_Connector 2x20Pin
designator X?, comment Connector 2x20Pin
Generic connector 2x20 Pin
footprint Pin Header 2x20 TH Pitch 2.54mm F (PinHeader 2x20 TH Pitch 2.54mm Female)
footprint Pin Header 2x20 TH Pitch 2.54mm (PinHeader 2x20 TH Pitch 2.54mm)
footprint Pin Header 2x20 TH Pitch 2.54mm - sh (PinHeader 2x20 TH Pitch 2.54mm)
pins: 1, 2, 3, 4, 5, 6, 7, 8, 9, 10, 11, 12, 13, 14, 15, 16, 17, 18, 19, 20, 21, 22, 23, 24, 25, 26, 27, 28, 29, 30, 31, 32, 33, 34, 35, 36, 37, 38, 39, 40

## X_Connector 2x25Pin
designator X?, comment Connector 2x25Pin
Generic connector 2x25 Pin
footprint Pin Header 2x25 TH Pitch 2.54mm (PinHeader 2x20 TH Pitch 2.54mm)
footprint 20021111-00050T4LF (CONN HEADER 50POS UNSHD VERT T/H)
footprint Pin Header 2x25 SMD Pitch 2.54mm F (PinHeader 2x25 SMD Pitch 2.54mm female)
footprint Pin Header 2x25 TH Pitch 2.54mm F (PinHeader 2x20 TH Pitch 2.54mm female)
pins: 1, 2, 3, 4, 5, 6, 7, 8, 9, 10, 11, 12, 13, 14, 15, 16, 17, 18, 19, 20, 21, 22, 23, 24, 25, 26, 27, 28, 29, 30, 31, 32, 33, 34, 35, 36, 37, 38, 39, 40, 41, 42, 43, 44, 45, 46, 47, 48, 49, 50

## X_Connector 2x40 Pin
designator X?, comment Connector  2x40 Pin
Generic connector  2x40 Pin
footprint Pin Header 2x40 TH Pitch 2.54mm R (PinHeader 2x40 TH Pitch 2.54mm 90°)
footprint Pin Header 2x40 TH Pitch 2.54mm RR (PinHeader 2x40 TH Pitch 2.54mm 90°)
pins: 1, 2, 3, 4, 5, 6, 7, 8, 9, 10, 11, 12, 13, 14, 15, 16, 17, 18, 19, 20, 21, 22, 23, 24, 25, 26, 27, 28, 29, 30, 31, 32, 33, 34, 35, 36, 37, 38, 39, 40, 41, 42, 43, 44, 45, 46, 47, 48, 49, 50, 51, 52, 53, 54, 55, 56, 57, 58, 59, 60, 61, 62, 63, 64, 65, 66, 67, 68, 69, 70, 71, 72, 73, 74, 75, 76, 77, 78, 79, 80

## X_Connector 3Pin
designator X?, comment Connector 3Pin
Generic connector 3 Pin
footprint Pin Header 1x3 TH Pitch 2.54mm (PinHeader 1x3 TH Pitch 2.54mm)
footprint Pin Header 1x3 TH Pitch 2.54mm f (PinHeader 1x3 TH Pitch 2.54mm female)
pins: 1, 2, 3

## X_Connector 4Pin
designator X?, comment Connector 4Pin
Generic connector 4 Pin
footprint Pin Header 1x4 TH Pitch 2.54mm (PinHeader 1x4 TH Pitch 2.54mm)
footprint Binder 99 3390 282 04
footprint Pin Header 1x4 TH Pitch 2.54mm f (PinHeader 1x4 TH Pitch 2.54mm female)
pins: 1, 2, 3, 4

## X_Connector 5Pin
designator X?, comment Connector 5Pin
Generic connector 5 Pin
footprint Pin Header 1x5 TH Pitch 2.54mm (PinHeader 1x5 TH Pitch 2.54mm)
footprint Pin Header 1x5 TH Pitch 2.54mm f (PinHeader 1x5 TH Pitch 2.54mm female)
footprint circular pcb connector
pins: 1, 2, 3, 4, 5

## X_Connector 6Pin
designator X?, comment Connector 6Pin
Generic connector 6 Pin
footprint Pin Header 1x6 TH Pitch 2.54mm (PinHeader 1x6 TH Pitch 2.54mm)
footprint 419-10-206-00-006000_EDGE
footprint Pin Header 2x3 TH Pitch 2.54mm (PinHeader 2x3 TH Pitch 2.54mm)
footprint Pin Header 1x6 TH Pitch 2.54mm f (PinHeader 1x6 TH Pitch 2.54mm female)
footprint Pin Header 2x3 TH Pitch 2.54mm f (PinHeader 2x3 TH Pitch 2.54mm female)
footprint castellated hole 6in (castellated hole)
pins: 1, 2, 3, 4, 5, 6

## X_Connector 7Pin
designator X?, comment Connector 7Pin
Generic connector 7 Pin
footprint Pin Header 1x7 TH Pitch 2.54mm (PinHeader 1x7 TH Pitch 2.54mm)
footprint Pin Header 1x7 TH Pitch 2.54mm f (PinHeader 1x7 TH Pitch 2.54mm female)
pins: 1, 2, 3, 4, 5, 6, 7

## X_Connector 8Pin
designator X?, comment Connector 8Pin
Generic connector 8 Pin
footprint Pin Header 1x8 TH Pitch 2.54mm (PinHeader 1x8 TH Pitch 2.54mm)
footprint Pin Header 1x8 TH Pitch 2.54mm f (PinHeader 1x8 TH Pitch 2.54mm female)
pins: 1, 2, 3, 4, 5, 6, 7, 8

## X_Connector 9Pin
designator X?, comment Connector 9Pin
Generic connector 9 Pin
footprint Pin Header 1x9 TH Pitch 2.54mm (PinHeader 1x9 TH Pitch 2.54mm)
footprint DSUB1.385-2H9 (Connector; D Subminiature; 9 Position; Right Angle; Pitch 1.385 mm)
footprint Pin Header 1x9 TH Pitch 2.54mm f (PinHeader 1x9 TH Pitch 2.54mm female)
pins: 1, 2, 3, 4, 5, 6, 7, 8, 9

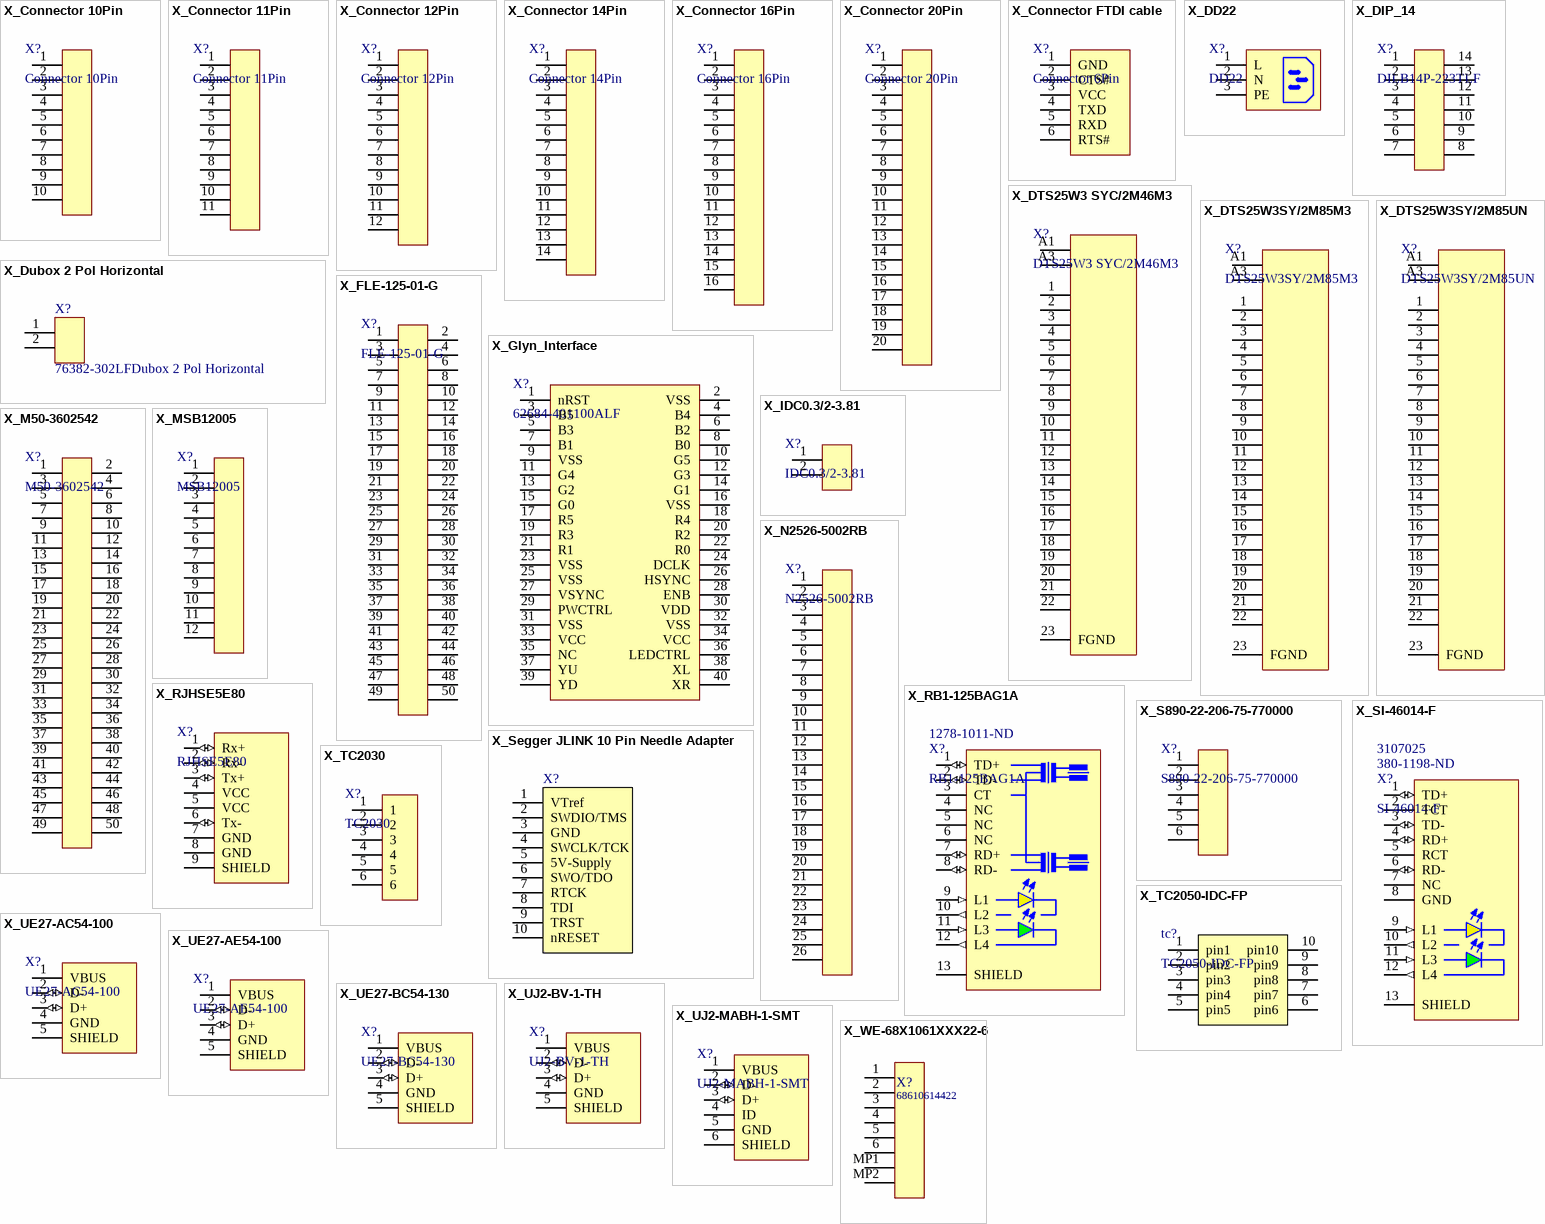
[diagram p8: symbols X_Connector 10Pin to X_WE-68X1061XXX22-6]

## X_Connector 10Pin
designator X?, comment Connector 10Pin
Generic connector 10 Pin
footprint Pin Header 1x10 TH Pitch 2.54mm (PinHeader 1x10 TH Pitch 2.54mm)
footprint Pin Header 1x10 TH Pitch 2.54mm  f (PinHeader 1x10 TH Pitch 2.54mm Female)
footprint Pin Header 2x5 TH Pitch 1.27mm (PinHeader 2x5 TH Pitch 1.27mm)
footprint Pin Header 2x5 TH Pitch 2.54mm (PinHeader 2x5 TH Pitch 2.54mm)
pins: 1, 2, 3, 4, 5, 6, 7, 8, 9, 10

## X_Connector 11Pin
designator X?, comment Connector 11Pin
Generic connector 11 Pin
footprint Pin Header 1x11 TH Pitch 2.54mm (PinHeader 1x11 TH Pitch 2.54mm)
footprint Pin Header 1x11 TH Pitch 2.54mm F (PinHeader 1x11 TH Pitch 2.54mm female)
pins: 1, 2, 3, 4, 5, 6, 7, 8, 9, 10, 11

## X_Connector 12Pin
designator X?, comment Connector 12Pin
Generic connector 12 Pin
footprint Pin Header 1x12 TH Pitch 2.54mm (PinHeader 1x12 TH Pitch 2.54mm)
footprint Pin Header 1x12 TH Pitch 2.54mm f (PinHeader 1x12 TH Pitch 2.54mm female)
pins: 1, 2, 3, 4, 5, 6, 7, 8, 9, 10, 11, 12

## X_Connector 14Pin
designator X?, comment Connector 14Pin
Generic connector 14 Pin
footprint Pin Header 1x14 TH Pitch 2.54mm (PinHeader 1x14 TH Pitch 2.54mm)
footprint Pin Header 1x14 TH Pitch 2.54mm F (PinHeader 1x14 TH Pitch 2.54mm female)
footprint Pin Header 2x7 TH Pitch 2.54mm (PinHeader 2x7 TH Pitch 2.54mm)
footprint Pin Header 2x7 TH Pitch 2.54mm F (PinHeader 2x7 TH Pitch 2.54mm female)
footprint Pin Header 2x7 TH Pitch 2.54mm F RR (PinHeader 2x7 TH Pitch 2.54mm female Rightangle)
pins: 1, 2, 3, 4, 5, 6, 7, 8, 9, 10, 11, 12, 13, 14

## X_Connector 16Pin
designator X?, comment Connector 16Pin
Generic connector 16 Pin
footprint Pin Header 1x16 TH Pitch 2.54mm (PinHeader 1x16 TH Pitch 2.54mm)
footprint Pin Header 1x16 TH Pitch 2.54mm F (PinHeader 1x16 TH Pitch 2.54mm female)
footprint Pin Header 2x8 TH Pitch 2.54mm F RR (PinHeader 2x8 TH Pitch 2.54mm female Rightangle)
footprint Pin Header 2x8 TH Pitch 2.54mm F (PinHeader 2x8 TH Pitch 2.54mm female)
footprint Pin Header 2x8 TH Pitch 2.54mm (PinHeader 2x8 TH Pitch 2.54mm)
footprint Pin Header 2x8 TH Pitch 2.54mm sh (PinHeader 2x8 TH Pitch 2.54mm shrouded)
footprint Pin Header 2x8 TH Pitch 2.54mm shl (PinHeader 2x8 TH Pitch 2.54mm schrouded lock)
pins: 1, 2, 3, 4, 5, 6, 7, 8, 9, 10, 11, 12, 13, 14, 15, 16

## X_Connector 20Pin
designator X?, comment Connector 20Pin
Generic connector 20 Pin
footprint Pin Header 2x10 TH Pitch 2.54mm (PinHeader 2x10 TH Pitch 2.54mm)
pins: 1, 2, 3, 4, 5, 6, 7, 8, 9, 10, 11, 12, 13, 14, 15, 16, 17, 18, 19, 20

## X_Connector FTDI cable
designator X?, comment Connector 6Pin
Connector 6 Pin for FTDI cable
footprint Pin Header 1x6 TH Pitch 2.54mm (PinHeader 1x6 TH Pitch 2.54mm)
pins: 1 GND, 2 CTS#, 3 VCC, 4 TXD, 5 RXD, 6 RTS#